# Altium schematic symbol library ERJ-6GEY0R00V.SchLib: 1 symbol
Pins are listed as number, name and electrical type; pins without a type are passive.

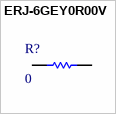
[diagram p0: symbol ERJ-6GEY0R00V]

## ERJ-6GEY0R00V
designator R?, comment 0
RES SMD 0 OHM JUMPER 1/8W 0805; Manufacturer Part Number: ERJ-6GEY0R00V; Manufacturer: Panasonic ECG; Rated Power: 0.125 W; Resistance: 0 O; Tolerance (%): 0 %; Temp Coefficient: 0 ppm/°C; Description: Res Thick Film 0805 0 Ohm Molded SMD SMD Embossed Carrier T/R; Supplier 1: Digi-Key; Size Code: 0805; ComponentLink1URL: https://datasheet.ciiva.com/28695/1678796-28695877.pdf; ComponentLink1Description: https://datasheet.ciiva.com/28695/1678796-28695877.pdf; ComponentLink2URL: https://datasheet.ciiva.com/11821/0900766b80f806dd-11821735.pdf; ComponentLink2Description: https://datasheet.ciiva.com/11821/0900766b80f806dd-11821735.pdf; ComponentLink3URL: https://datasheet.ciiva.com/43460/1678796-43460073.pdf; ComponentLink3Description: https://datasheet.ciiva.com/43460/1678796-43460073.pdf; ComponentLink4URL: https://datasheet.ciiva.com/9117/aoa0000ce1-9117354.pdf; ComponentLink4Description: https://datasheet.ciiva.com/9117/aoa0000ce1-9117354.pdf; ComponentLink5URL: https://datasheet.ciiva.com/46377/1678796-46377866.pdf; ComponentLink5Description: https://datasheet.ciiva.com/46377/1678796-46377866.pdf; ComponentLink6URL: https://datasheet.ciiva.com/36526/1989607-36526237.pdf; ComponentLink6Description: https://datasheet.ciiva.com/36526/1989607-36526237.pdf; ComponentLink7URL: https://datasheet.ciiva.com/17215/aoa0000ce1-17215390.pdf; ComponentLink7Description: https://datasheet.ciiva.com/17215/aoa0000ce1-17215390.pdf; ComponentLink8URL: https://datasheet.ciiva.com/16512/aoa0000ce1-16512111.pdf; ComponentLink8Description: https://datasheet.ciiva.com/16512/aoa0000ce1-16512111.pdf; Supplier Part Number 1: P0.0ACT-ND; Stock 1: 6840904; Pricing 1: 1=0.1, 10=0.053, 25=0.038, 50=0.029, 100=0.0214, 250=0.0163, 500=0.0131, 1000=0.0096 (USD)
pins: 1, 2